# Altium footprint library UZohmADC.PcbLib: 23 footprints (part 1 of 2)
Each footprint in its own frame and in the unit in brackets; x right, y up, seen from the top. Pads: shape width x height; smd on the part's side, far side on the other; paste and mask are expansions set on the pad; w line width, h text height; cw(c..) or ccw(c..) is an arc to the next point about the centre after c.
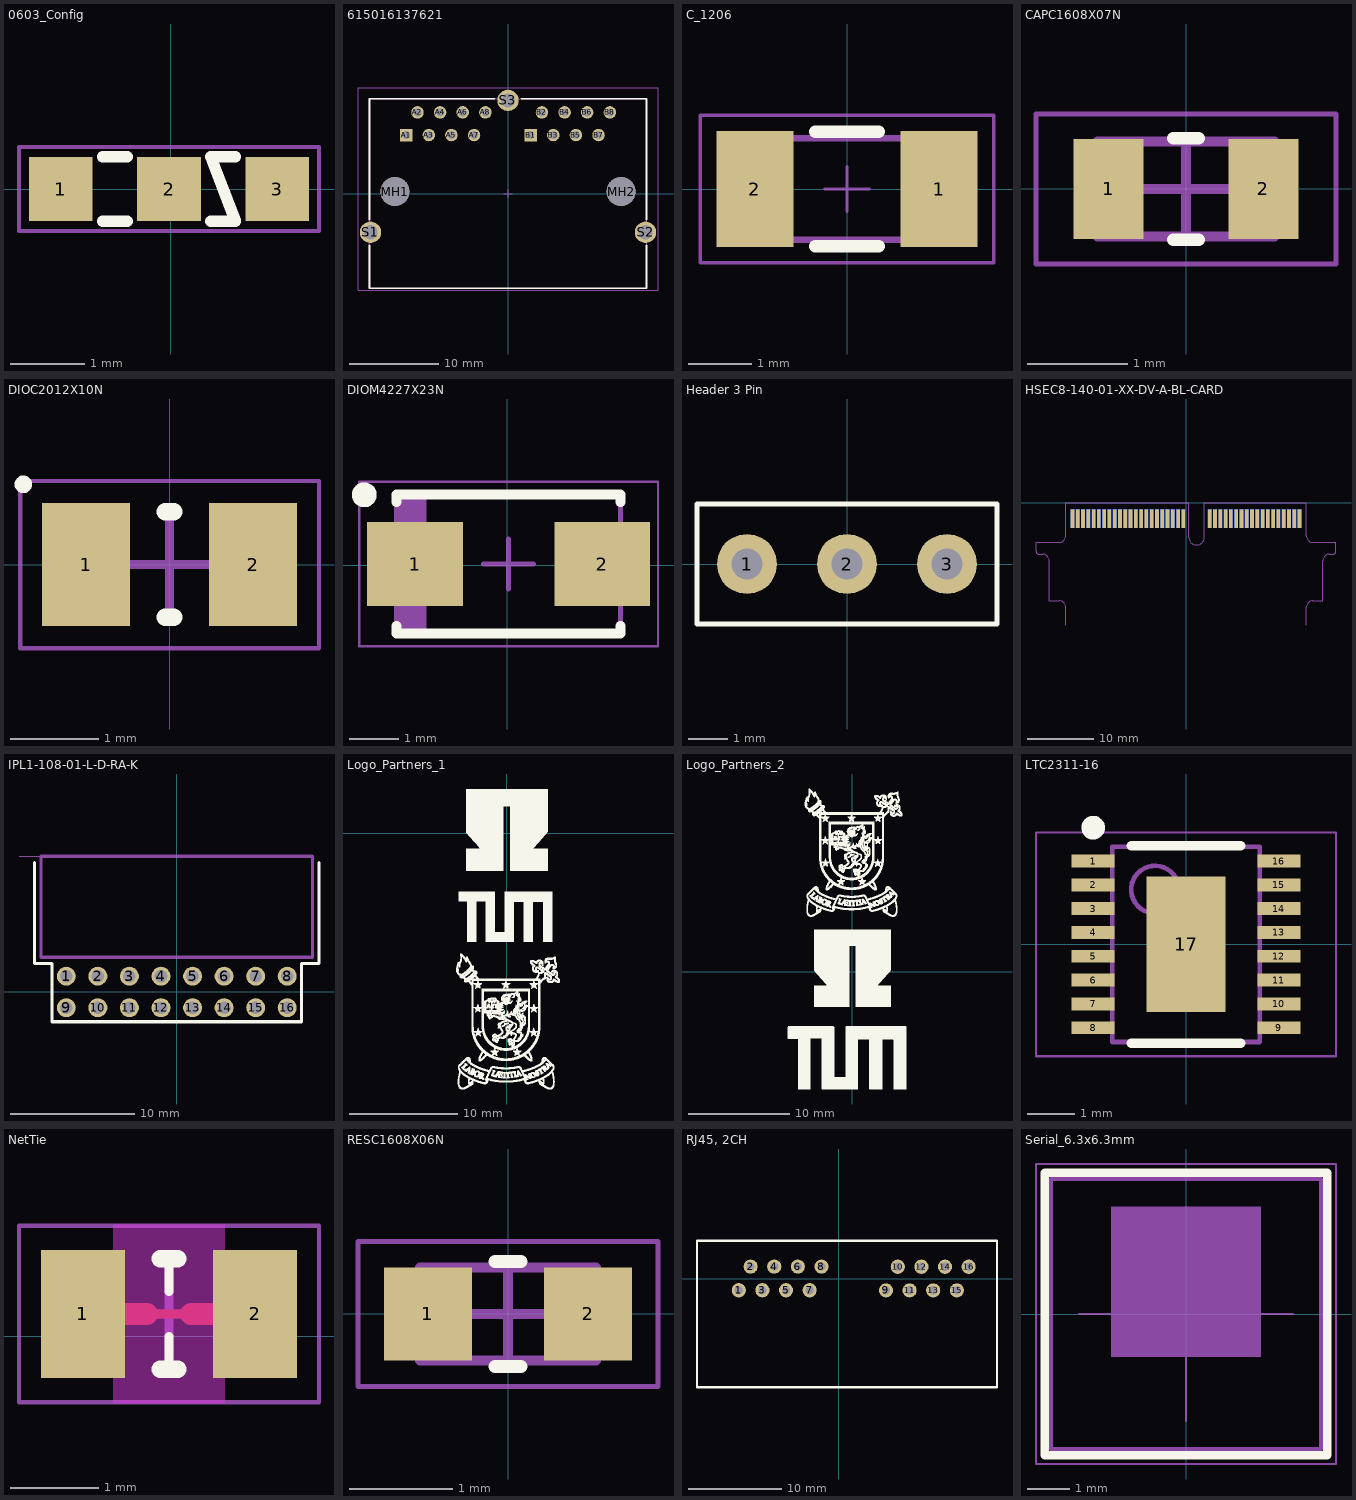
[diagram p0: the footprints below, top view; thin cyan lines are the x and y axes]

## 0603_Config [mm] "0603 3-Pin Config Footprint"
height 1
pads (3):
  rect 0.85x0.85 smd: 1(-1.475,0) 2(-0.025,0) 3(1.425,0)
Top Overlay:
  lines w0.152: -0.914,-0.432 -0.584,-0.432 ; -0.914,0.432 -0.584,0.432 ; 0.533,-0.432 0.864,-0.432 0.533,0.432 0.864,0.432
Top Assembly:
  lines w0.054: -2.032,-0.559 -2.032,0.559 1.981,0.559 1.981,-0.559 -2.032,-0.559
  text ".Designator" at -1.824,-0.112 h0.64
3D body: height 2.8, standoff -2.8, extent -1.537,-1.143 -1.537,-1.143
3D body "User Library-RESC1608X___.STEP": height 0.3, standoff 0, extent -1.55,-0.4 0.05,0.4

## 615016137621 [mm] "Modular Jack Horizontal Shielded Dual Port 8P8C Tab Down"
height 13.75
pads (21):
  rect 1.4x1.4 hole 0.9: A1(-11.43,6.565) B1(2.54,6.565)
  round 1.4 hole 0.9: A2(-10.16,9.105) A3(-8.89,6.565) A4(-7.62,9.105) A5(-6.35,6.565) A6(-5.08,9.105) A7(-3.81,6.565) A8(-2.54,9.105) B2(3.81,9.105) B3(5.08,6.565) B4(6.35,9.105) B5(7.62,6.565) B6(8.89,9.105) B7(10.16,6.565) B8(11.43,9.105)
  round 3.25 hole 3.25 unplated: MH1(-12.7,0.215) MH2(12.7,0.215)
  round 2.4 hole 1.6: S1(-15.435,-4.355) S2(15.435,-4.355) S3(0,10.455)
Top Overlay:
  lines w0.2: -15.56,-5.81 -15.56,-10.635 15.56,-10.635 15.56,-5.81 ; -15.56,-2.9 -15.56,10.635 -1.5,10.635 ; 1.5,10.635 15.56,10.635 15.56,-2.9
Top Assembly:
  lines w0.1: -15.56,-10.635 -15.56,10.635 15.56,10.635 15.56,-10.635 -15.56,-10.635
  text ".Designator" at -6.824,-0.357 h2
Mechanical 15:
  lines w0.05: -0.5,0 0.5,0 ; 0,-0.5 0,0.5 ; -16.835,-10.835 -16.835,11.855 16.835,11.855 16.835,-10.835 -16.835,-10.835
3D body "615016137621 (rev1).stp": height 13.75, standoff -3.85, extent -15.565,-10.635 15.565,10.635

## C_1206 [mm]
height 1.8
pads (2):
  rect 1.21x1.82 smd: 1(1.45,0) 2(-1.45,0)
Top Overlay:
  lines w0.2: -0.5,-0.9 0.5,-0.9 ; -0.5,0.9 0.5,0.9
Top Assembly:
  lines w0.1: -1.1,-0.8 -1.1,0.8 ; 1.1,-0.8 1.1,0.8 ; -1.6,-0.8 1.6,-0.8 1.6,0.8 -1.6,0.8 -1.6,-0.8
  text ".Designator" at -0.924,-0.112 h0.64
Mechanical 15:
  lines w0.05: -0.35,0 0.35,0 ; 0,-0.35 0,0.35 ; -2.31,-1.16 -2.31,1.16 2.31,1.16 2.31,-1.16 -2.31,-1.16
3D body "User Library-CAPC3216X___CAPC3216X180N.STEP": height 1.82, standoff 0, extent -1.6,-0.81 1.6,0.81

## CAPC1608X07N [mm] "Chip Capacitor, 2-Leads, Body 1,60x0,80mm, IPC Medium Density"
height 0.7
pads (2):
  rect 0.7x1 smd: 1(-0.775,0) 2(0.775,0)
Top Overlay:
  lines w0.127: -0.127,-0.508 0.127,-0.508 ; -0.127,0.508 0.127,0.508
Top Assembly:
  lines w0.1: -0.885,-0.475 0.885,-0.475 0.885,0.475 -0.885,0.475 -0.885,-0.475
  text ".Designator" at 1.076,-0.212 h0.64
Mechanical 15:
  lines w0.05: -1.5,-0.75 -1.5,0.75 1.5,0.75 1.5,-0.75 -1.5,-0.75
  lines w0.1: -0.475,0 0.475,0 ; 0,-0.475 0,0.475
3D body: height 0.7, standoff 0, extent 0.435,-0.475 0.885,0.475
3D body: height 0.7, standoff 0, extent -0.435,-0.475 0.435,0.475
3D body: height 0.7, standoff 0, extent -0.885,-0.475 -0.435,0.475

## DIOC2012X10N [mm] "Chip Diode, 2-Leads, Body 2,00x1,25mm, IPC Medium Density"
height 1.05
pads (2):
  rect 1x1.4 smd: 1(-0.95,0) 2(0.95,0)
Top Overlay:
  circle w0.1: c-1.662,0.912 r0.05
  lines w0.2: -0.05,-0.6 0.05,-0.6 ; -0.05,0.6 0.05,0.6
Top Assembly:
  lines w0.05: -1.7,-0.95 1.7,-0.95 ; -1.7,-0.95 -1.7,0.95 ; -1.7,-0.95 1.7,-0.95 ; -1.7,-0.95 -1.7,0.95 ; -1.7,0.95 1.7,0.95 ; -1.7,0.95 1.7,0.95 ; 1.7,-0.95 1.7,0.95 ; 1.7,-0.95 1.7,0.95
  text ".Designator" at -1.424,-0.012 h0.64
Mechanical 15:
  lines w0.05: -1.7,-0.95 1.7,-0.95 1.7,0.95 -1.7,0.95 -1.7,-0.95
  lines w0.1: -0.5,0 0.5,0 ; 0,-0.5 0,0.5
3D body: height 2.81, standoff -2.41, extent 0,0 0,0
3D body: height 2.81, standoff -2.41, extent -1.143,0.508 -1.143,0.508
3D body "LED-0805H1.1.stp": height 1.1, standoff 0, extent -1.039,-0.675 1.061,0.675

## DIOM4227X23N [mm] "Molded Diode, 2-Leads, Body 4,25x2,67mm, IPC Medium Density"
pads (2):
  rect 1.92x1.68 smd: 1(-1.854,0.023) 2(1.906,0.023)
Top Overlay:
  circle w0.25: c-2.874,1.413 r0.125
  lines w0.2: -2.224,-1.217 -2.224,-1.377 2.276,-1.377 2.276,-1.217 ; -2.224,1.263 -2.224,1.423 2.276,1.423 2.276,1.263
Top Assembly:
  rectangle: -2.224,-1.372 -1.619,1.418
  lines w0.1: -2.224,-1.372 2.276,-1.372 2.276,1.418 -2.224,1.418 -2.224,-1.372
  text ".Designator" at -1.424,-0.291 h1
Mechanical 15:
  lines w0.05: -2.974,-1.627 3.026,-1.627 3.026,1.673 -2.974,1.673 -2.974,-1.627
  lines w0.1: -0.474,0.023 0.526,0.023 ; 0.026,-0.477 0.026,0.523
3D body "DIOM4227X23N.step": height 2.29, standoff 0, extent -2.444,-1.372 2.496,1.418

## Header 3 Pin [mil]
pads (3):
  round 60 hole 31.5: 1(-100,0) 2(0,0) 3(100,0)
Top Overlay:
  lines w5: -150,-60 150,-60 150,60 -150,60 -150,-60
3D body "zl201-3_p2-54_l7-62_w2-54_h8-89.stp": height 350, standoff -120, extent -150,-50 150,50

## HSEC8-140-01-XX-DV-A-BL-CARD [mm]
pads (80):
  rect 0.55x2.8 smd far side mask+0.05: 1(-17.2,-2.4) 3(-16.4,-2.4) 5(-15.6,-2.4) 7(-14.8,-2.4) 9(-14,-2.4) 11(-13.2,-2.4) 13(-12.4,-2.4) 15(-11.6,-2.4) 17(-10.8,-2.4) 19(-10,-2.4) 21(-9.2,-2.4) 23(-8.4,-2.4) 25(-7.6,-2.4) 27(-6.8,-2.4) 29(-6,-2.4) 31(-5.2,-2.4) 33(-4.4,-2.4) 35(-3.6,-2.4) 37(-2.8,-2.4) 39(-2,-2.4) 41(-1.2,-2.4) 43(-0.4,-2.4) 45(3.6,-2.4) 47(4.4,-2.4) 49(5.2,-2.4) 51(6,-2.4) 53(6.8,-2.4) 55(7.6,-2.4) 57(8.4,-2.4) 59(9.2,-2.4) 61(10,-2.4) 63(10.8,-2.4) 65(11.6,-2.4) 67(12.4,-2.4) 69(13.2,-2.4) 71(14,-2.4) 73(14.8,-2.4) 75(15.6,-2.4) 77(16.4,-2.4) 79(17.2,-2.4)
  rect 0.55x2.8 smd mask+0.05: 2(-17.2,-2.4) 4(-16.4,-2.4) 6(-15.6,-2.4) 8(-14.8,-2.4) 10(-14,-2.4) 12(-13.2,-2.4) 14(-12.4,-2.4) 16(-11.6,-2.4) 18(-10.8,-2.4) 20(-10,-2.4) 22(-9.2,-2.4) 24(-8.4,-2.4) 26(-7.6,-2.4) 28(-6.8,-2.4) 30(-6,-2.4) 32(-5.2,-2.4) 34(-4.4,-2.4) 36(-3.6,-2.4) 38(-2.8,-2.4) 40(-2,-2.4) 42(-1.2,-2.4) 44(-0.4,-2.4) 46(3.6,-2.4) 48(4.4,-2.4) 50(5.2,-2.4) 52(6,-2.4) 54(6.8,-2.4) 56(7.6,-2.4) 58(8.4,-2.4) 60(9.2,-2.4) 62(10,-2.4) 64(10.8,-2.4) 66(11.6,-2.4) 68(12.4,-2.4) 70(13.2,-2.4) 72(14,-2.4) 74(14.8,-2.4) 76(15.6,-2.4) 78(16.4,-2.4) 80(17.2,-2.4)
Mechanical 16:
  lines w0.025: -18.225,-18.566 -18.225,-15.84 ccw(c-19.225,-15.84) -19.225,-14.84 -20.725,-14.84 -20.725,-8.78 ccw(c-21.725,-8.78) -21.725,-7.78 -22.325,-7.78 cw(c-22.325,-7.38) -22.725,-7.38 -22.725,-6 -19.225,-6 ccw(c-19.225,-5) -18.225,-5 -18.225,-0.779 -18.225,0 0.4,0 0.4,-0.779 0.4,-5.2 ccw(c1.6,-5.2) 2.8,-5.2 2.8,-0.779 2.8,0 18.225,0 18.225,-0.779 18.225,-5 ccw(c19.225,-5) 19.225,-6 22.725,-6 22.725,-7.38 cw(c22.325,-7.38) 22.325,-7.78 21.725,-7.78 ccw(c21.725,-8.78) 20.725,-8.78 20.725,-14.84 19.225,-14.84 ccw(c19.225,-15.84) 18.225,-15.84 18.225,-18.566

## IPL1-108-01-L-D-RA-K [mil]
pads (16):
  round 60 hole 40 mask+3: 1(-350,50) 2(-250,50) 3(-150,50) 4(-50,50) 5(50,50) 6(150,50) 7(250,50) 8(350,50) 9(-350,-50) 10(-250,-50) 11(-150,-50) 12(-50,-50) 13(50,-50) 14(150,-50) 15(250,-50) 16(350,-50)
Top Overlay:
  lines w10: -450.79,410 -450.79,90.55 -395.79,90.55 -395.79,-94.49 395.79,-94.49 395.79,90 450.79,90 450.79,410
Top Assembly:
  lines w10: -430,110 430,110 430,430 -430,430 -430,110
  text ".Designator" at -221.41,245.77 h78.74
Mechanical 16:
  lines w0.1: -500,430 300,430
3D body "IPL1-108-01-F-D-RA-K.stp": height 310, standoff -85, extent -430,-58.32 430,434.18

## Logo_Partners_1 [mm] "THN, TUM and USACH Logo"
Top Overlay:
  drawing of 11309 lines, arcs and shapes, not listed

## Logo_Partners_2 [mm] "USACH, THN and TUM Logo"
Top Overlay:
  drawing of 13619 lines, arcs and shapes, not listed

## LTC2311-16 [mm]
pads (17):
  rect 0.9x0.27 smd mask+0.05: 1(-1.95,1.75) 2(-1.95,1.25) 3(-1.95,0.75) 4(-1.95,0.25) 5(-1.95,-0.25) 6(-1.95,-0.75) 7(-1.95,-1.25) 8(-1.95,-1.75) 9(1.95,-1.75) 10(1.95,-1.25) 11(1.95,-0.75) 12(1.95,-0.25) 13(1.95,0.25) 14(1.95,0.75) 15(1.95,1.25) 16(1.95,1.75)
  rect 1.65x2.85 smd: 17(0,0)
Top Overlay:
  circle w0.25: c-1.95,2.45 r0.125
  lines w0.2: -1.15,-2.075 1.15,-2.075 ; -1.15,2.075 1.15,2.075
Top Assembly:
  circle w0.1: c-0.65,1.15 r0.5
  lines w0.1: -1.55,-2.05 1.55,-2.05 1.55,2.05 -1.55,2.05 -1.55,-2.05
  text ".Designator" at -1.224,-1.012 h0.64
Mechanical 15:
  lines w0.05: -3.15,-2.35 -3.15,2.35 3.15,2.35 3.15,-2.35 -3.15,-2.35
  lines w0.1: -0.5,0 0.5,0 ; 0,-0.5 0,0.5
3D body: height 1.1, standoff 0.05, extent -1.55,-2.05 1.55,2.05

## NetTie [mm]
pads (2):
  rect 0.95x1.45 smd: 1(-3.769,0.254) 2(-1.819,0.254)
Top Layer:
  lines w0.102: -3.048,0.254 -2.54,0.254
  lines w0.254: -3.769,0.254 -3.048,0.254 ; -2.54,0.254 -1.778,0.254
Top Overlay:
  lines w0.102: -2.794,-0.254 -2.794,0 ; -2.794,0.508 -2.794,0.879
  lines w0.2: -2.894,-0.371 -2.694,-0.371 ; -2.894,0.879 -2.694,0.879
Keep-Out Layer:
  rectangle: -3.429,-0.762 -2.159,1.27
Mechanical 15:
  lines w0.05: -4.494,-0.746 -4.494,1.254 -1.094,1.254 -1.094,-0.746 -4.494,-0.746
  lines w0.1: -3.294,0.254 -2.294,0.254 ; -2.794,-0.246 -2.794,0.762

## RESC1608X06N [mm] "Chip Resistor, 2-Leads, Body 1,60x0,80mm, IPC Medium Density"
height 0.55
pads (2):
  rect 0.85x0.9 smd: 1(-0.775,0) 2(0.775,0)
Top Overlay:
  lines w0.127: -0.127,-0.508 0.127,-0.508 ; -0.127,0.508 0.127,0.508
Top Assembly:
  lines w0.1: -0.85,-0.45 -0.85,0.45 0.85,0.45 0.85,-0.45 -0.85,-0.45
  text ".Designator" at 1.076,-0.212 h0.64
Mechanical 15:
  lines w0.05: -1.45,-0.7 -1.45,0.7 1.45,0.7 1.45,-0.7 -1.45,-0.7
  lines w0.1: -0.45,0 0.45,0 ; 0,-0.45 0,0.45
3D body: height 0.55, standoff 0, extent -0.55,-0.45 0.55,0.45
3D body: height 0.55, standoff 0, extent 0.55,-0.45 0.85,0.45
3D body: height 0.55, standoff 0, extent -0.85,-0.45 -0.55,0.45

## RJ45, 2CH [mil]
pads (16):
  round 60 hole 35: 1(-423.07,-49.37) 2(-373.07,50.63) 3(-323.07,-49.37) 4(-273.07,50.63) 5(-223.07,-49.37) 6(-173.07,50.63) 7(-123.07,-49.37) 8(-73.07,50.63) 9(200,-50) 10(250,50) 11(300,-50) 12(350,50) 13(400,-50) 14(450,50) 15(500,-50) 16(550,50)
Top Overlay:
  lines w10: -600,-460 670,-460 670,160 -600,160 -600,-460

## Serial_6.3x6.3mm [mm]
Top Overlay:
  lines w0.2: -3.3,-3.3 3.3,-3.3 3.3,3.3 -3.3,3.3 -3.3,-3.3
Top Assembly:
  region: -1.75,2.5 -1.75,-1 1.75,-1 1.75,2.5
  lines w0.1: -3.15,-3.15 3.15,-3.15 3.15,3.15 -3.15,3.15 -3.15,-3.15
  text "SerialNr" at 2.5,-1.7 h0.7
Mechanical 15:
  lines w0.05: -2.5,0 2.5,0 ; 0,-2.5 0,2.5 ; -3.5,-3.5 3.5,-3.5 3.5,3.5 -3.5,3.5 -3.5,-3.5